# Altium footprint library hello.PcbLib: 6 footprints
Each footprint in its own frame and in the unit in brackets; x right, y up, seen from the top. Pads: shape width x height; smd on the part's side, far side on the other; paste and mask are expansions set on the pad; w line width, h text height; cw(c..) or ccw(c..) is an arc to the next point about the centre after c.
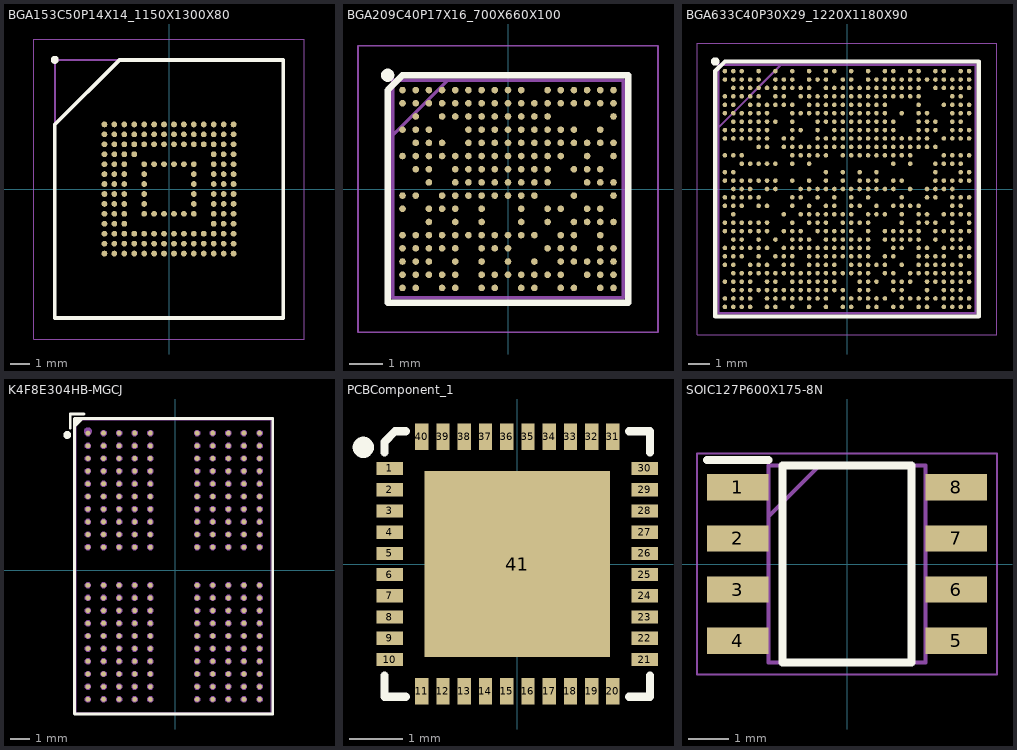
[diagram p0: the footprints below, top view; thin cyan lines are the x and y axes]

## BGA153C50P14X14_1150X1300X80 [mm]
pads (153):
  round 0.29 smd: A1(-3.25,3.25) A2(-2.75,3.25) A3(-2.25,3.25) A4(-1.75,3.25) A5(-1.25,3.25) A6(-0.75,3.25) A7(-0.25,3.25) A8(0.25,3.25) A9(0.75,3.25) A10(1.25,3.25) A11(1.75,3.25) A12(2.25,3.25) A13(2.75,3.25) A14(3.25,3.25) B1(-3.25,2.75) B2(-2.75,2.75) B3(-2.25,2.75) B4(-1.75,2.75) B5(-1.25,2.75) B6(-0.75,2.75) B7(-0.25,2.75) B8(0.25,2.75) B9(0.75,2.75) B10(1.25,2.75) B11(1.75,2.75) B12(2.25,2.75) B13(2.75,2.75) B14(3.25,2.75) C1(-3.25,2.25) C2(-2.75,2.25) C3(-2.25,2.25) C4(-1.75,2.25) C5(-1.25,2.25) C6(-0.75,2.25) C7(-0.25,2.25) C8(0.25,2.25) C9(0.75,2.25) C10(1.25,2.25) C11(1.75,2.25) C12(2.25,2.25) C13(2.75,2.25) C14(3.25,2.25) D1(-3.25,1.75) D2(-2.75,1.75) D3(-2.25,1.75) D4(-1.75,1.75) D12(2.25,1.75) D13(2.75,1.75) D14(3.25,1.75) E1(-3.25,1.25) E2(-2.75,1.25) E3(-2.25,1.25) E5(-1.25,1.25) E6(-0.75,1.25) E7(-0.25,1.25) E8(0.25,1.25) E9(0.75,1.25) E10(1.25,1.25) E12(2.25,1.25) E13(2.75,1.25) E14(3.25,1.25) F1(-3.25,0.75) F2(-2.75,0.75) F3(-2.25,0.75) F5(-1.25,0.75) F10(1.25,0.75) F12(2.25,0.75) F13(2.75,0.75) F14(3.25,0.75) G1(-3.25,0.25) G2(-2.75,0.25) G3(-2.25,0.25) G5(-1.25,0.25) G10(1.25,0.25) G12(2.25,0.25) G13(2.75,0.25) G14(3.25,0.25) H1(-3.25,-0.25) H2(-2.75,-0.25) H3(-2.25,-0.25) H5(-1.25,-0.25) H10(1.25,-0.25) H12(2.25,-0.25) H13(2.75,-0.25) H14(3.25,-0.25) J1(-3.25,-0.75) J2(-2.75,-0.75) J3(-2.25,-0.75) J5(-1.25,-0.75) J10(1.25,-0.75) J12(2.25,-0.75) J13(2.75,-0.75) J14(3.25,-0.75) K1(-3.25,-1.25) K2(-2.75,-1.25) K3(-2.25,-1.25) K5(-1.25,-1.25) K6(-0.75,-1.25) K7(-0.25,-1.25) K8(0.25,-1.25) K9(0.75,-1.25) K10(1.25,-1.25) K12(2.25,-1.25) K13(2.75,-1.25) K14(3.25,-1.25) L1(-3.25,-1.75) L2(-2.75,-1.75) L3(-2.25,-1.75) L12(2.25,-1.75) L13(2.75,-1.75) L14(3.25,-1.75) M1(-3.25,-2.25) M2(-2.75,-2.25) M3(-2.25,-2.25) M4(-1.75,-2.25) M5(-1.25,-2.25) M6(-0.75,-2.25) M7(-0.25,-2.25) M8(0.25,-2.25) M9(0.75,-2.25) M10(1.25,-2.25) M11(1.75,-2.25) M12(2.25,-2.25) M13(2.75,-2.25) M14(3.25,-2.25) N1(-3.25,-2.75) N2(-2.75,-2.75) N3(-2.25,-2.75) N4(-1.75,-2.75) N5(-1.25,-2.75) N6(-0.75,-2.75) N7(-0.25,-2.75) N8(0.25,-2.75) N9(0.75,-2.75) N10(1.25,-2.75) N11(1.75,-2.75) N12(2.25,-2.75) N13(2.75,-2.75) N14(3.25,-2.75) P1(-3.25,-3.25) P2(-2.75,-3.25) P3(-2.25,-3.25) P4(-1.75,-3.25) P5(-1.25,-3.25) P6(-0.75,-3.25) P7(-0.25,-3.25) P8(0.25,-3.25) P9(0.75,-3.25) P10(1.25,-3.25) P11(1.75,-3.25) P12(2.25,-3.25) P13(2.75,-3.25) P14(3.25,-3.25)
Top Overlay:
  circle w0.2: c-5.75,6.5 r0.1
  lines w0.2: -5.75,-6.5 -5.75,3.25 -2.5,6.5 5.75,6.5 5.75,-6.5 -5.75,-6.5
Mechanical 13:
  lines w0.1: -5.75,3.225 -2.475,6.5 ; -5.75,-6.5 -5.75,6.5 5.75,6.5 5.75,-6.5 -5.75,-6.5
Mechanical 15:
  lines w0.05: -6.8,-7.55 -6.8,7.55 6.8,7.55 6.8,-7.55 -6.8,-7.55
3D body "KLMAG1JETD-B041.stp": height 0.8, standoff 0, extent -5.75,-6.5 5.75,6.5

## BGA209C40P17X16_700X660X100 [mm]
pads (209):
  round 0.2 smd: A1(-3.2,3) A2(-2.8,3) A3(-2.4,3) A4(-2,3) A5(-1.6,3) A6(-1.2,3) A7(-0.8,3) A8(-0.4,3) A9(0,3) A10(0.4,3) A12(1.2,3) A13(1.6,3) A14(2,3) A15(2.4,3) A16(2.8,3) A17(3.2,3) B1(-3.2,2.6) B2(-2.8,2.6) B3(-2.4,2.6) B4(-2,2.6) B5(-1.6,2.6) B6(-1.2,2.6) B7(-0.8,2.6) B8(-0.4,2.6) B9(0,2.6) B10(0.4,2.6) B11(0.8,2.6) B12(1.2,2.6) B13(1.6,2.6) B14(2,2.6) B15(2.4,2.6) B16(2.8,2.6) B17(3.2,2.6) C2(-2.8,2.2) C4(-2,2.2) C5(-1.6,2.2) C6(-1.2,2.2) C7(-0.8,2.2) C8(-0.4,2.2) C9(0,2.2) C10(0.4,2.2) C11(0.8,2.2) C12(1.2,2.2) C17(3.2,2.2) D1(-3.2,1.8) D2(-2.8,1.8) D3(-2.4,1.8) D6(-1.2,1.8) D7(-0.8,1.8) D8(-0.4,1.8) D9(0,1.8) D10(0.4,1.8) D11(0.8,1.8) D12(1.2,1.8) D13(1.6,1.8) D14(2,1.8) D16(2.8,1.8) E2(-2.8,1.4) E3(-2.4,1.4) E4(-2,1.4) E6(-1.2,1.4) E7(-0.8,1.4) E8(-0.4,1.4) E9(0,1.4) E10(0.4,1.4) E11(0.8,1.4) E12(1.2,1.4) E13(1.6,1.4) E14(2,1.4) E15(2.4,1.4) E16(2.8,1.4) E17(3.2,1.4) F1(-3.2,1) F2(-2.8,1) F3(-2.4,1) F4(-2,1) F5(-1.6,1) F6(-1.2,1) F7(-0.8,1) F8(-0.4,1) F9(0,1) F10(0.4,1) F11(0.8,1) F12(1.2,1) F13(1.6,1) F15(2.4,1) F17(3.2,1) G2(-2.8,0.6) G3(-2.4,0.6) G5(-1.6,0.6) G6(-1.2,0.6) G7(-0.8,0.6) G8(-0.4,0.6) G9(0,0.6) G10(0.4,0.6) G11(0.8,0.6) G12(1.2,0.6) G14(2,0.6) G15(2.4,0.6) G16(2.8,0.6) H3(-2.4,0.2) H5(-1.6,0.2) H6(-1.2,0.2) H7(-0.8,0.2) H8(-0.4,0.2) H9(0,0.2) H10(0.4,0.2) H11(0.8,0.2) H12(1.2,0.2) H15(2.4,0.2) H16(2.8,0.2) H17(3.2,0.2) J1(-3.2,-0.2) J2(-2.8,-0.2) J4(-2,-0.2) J5(-1.6,-0.2) J6(-1.2,-0.2) J7(-0.8,-0.2) J8(-0.4,-0.2) J9(0,-0.2) J10(0.4,-0.2) J11(0.8,-0.2) J14(2,-0.2) J17(3.2,-0.2) K1(-3.2,-0.6) K3(-2.4,-0.6) K4(-2,-0.6) K5(-1.6,-0.6) K7(-0.8,-0.6) K10(0.4,-0.6) K12(1.2,-0.6) K13(1.6,-0.6) K15(2.4,-0.6) K16(2.8,-0.6) L3(-2.4,-1) L5(-1.6,-1) L7(-0.8,-1) L10(0.4,-1) L12(1.2,-1) L14(2,-1) L15(2.4,-1) L16(2.8,-1) L17(3.2,-1) M1(-3.2,-1.4) M2(-2.8,-1.4) M3(-2.4,-1.4) M4(-2,-1.4) M5(-1.6,-1.4) M6(-1.2,-1.4) M7(-0.8,-1.4) M8(-0.4,-1.4) M9(0,-1.4) M10(0.4,-1.4) M11(0.8,-1.4) M13(1.6,-1.4) M14(2,-1.4) M16(2.8,-1.4) N1(-3.2,-1.8) N2(-2.8,-1.8) N3(-2.4,-1.8) N4(-2,-1.8) N5(-1.6,-1.8) N7(-0.8,-1.8) N8(-0.4,-1.8) N9(0,-1.8) N12(1.2,-1.8) N13(1.6,-1.8) N14(2,-1.8) N16(2.8,-1.8) N17(3.2,-1.8) P1(-3.2,-2.2) P2(-2.8,-2.2) P3(-2.4,-2.2) P5(-1.6,-2.2) P7(-0.8,-2.2) P9(0,-2.2) P11(0.8,-2.2) P13(1.6,-2.2) P14(2,-2.2) P15(2.4,-2.2) P16(2.8,-2.2) P17(3.2,-2.2) R1(-3.2,-2.6) R2(-2.8,-2.6) R3(-2.4,-2.6) R4(-2,-2.6) R5(-1.6,-2.6) R7(-0.8,-2.6) R8(-0.4,-2.6) R9(0,-2.6) R10(0.4,-2.6) R11(0.8,-2.6) R12(1.2,-2.6) R13(1.6,-2.6) R15(2.4,-2.6) R16(2.8,-2.6) R17(3.2,-2.6) T1(-3.2,-3) T2(-2.8,-3) T4(-2,-3) T5(-1.6,-3) T7(-0.8,-3) T8(-0.4,-3) T10(0.4,-3) T11(0.8,-3) T13(1.6,-3) T14(2,-3) T16(2.8,-3) T17(3.2,-3)
Top Overlay:
  circle w0.2: c-3.65,3.45 r0.1
  lines w0.2: -3.65,-3.45 -3.65,3 -3.2,3.45 3.65,3.45 3.65,-3.45 -3.65,-3.45
Mechanical 13:
  lines w0.1: -3.5,1.625 -1.825,3.3 ; -3.5,-3.3 -3.5,3.3 3.5,3.3 3.5,-3.3 -3.5,-3.3
Mechanical 15:
  lines w0.05: -4.55,-4.35 -4.55,4.35 4.55,4.35 4.55,-4.35 -4.55,-4.35
3D body "MT6357ARV_A.stp": height 1, standoff 0, extent -3.5,-3.3 3.5,3.3

## BGA633C40P30X29_1220X1180X90 [mm]
pads (633):
  round 0.216 smd: A1(-5.8,5.6) A2(-5.4,5.6) A3(-5,5.6) A5(-4.2,5.6) A7(-3.4,5.6) A9(-2.6,5.6) A11(-1.8,5.6) A13(-1,5.6) A14(-0.6,5.6) A16(0.2,5.6) A18(1,5.6) A20(1.8,5.6) A21(2.2,5.6) A23(3,5.6) A24(3.4,5.6) A26(4.2,5.6) A27(4.6,5.6) A29(5.4,5.6) A30(5.8,5.6) AA2(-5.4,-2.4) AA3(-5,-2.4) AA5(-4.2,-2.4) AA7(-3.4,-2.4) AA9(-2.6,-2.4) AA10(-2.2,-2.4) AA11(-1.8,-2.4) AA13(-1,-2.4) AA14(-0.6,-2.4) AA15(-0.2,-2.4) AA16(0.2,-2.4) AA17(0.6,-2.4) AA18(1,-2.4) AA20(1.8,-2.4) AA21(2.2,-2.4) AA22(2.6,-2.4) AA23(3,-2.4) AA24(3.4,-2.4) AA26(4.2,-2.4) AA28(5,-2.4) AA29(5.4,-2.4) AB1(-5.8,-2.8) AB2(-5.4,-2.8) AB3(-5,-2.8) AB4(-4.6,-2.8) AB5(-4.2,-2.8) AB6(-3.8,-2.8) AB8(-3,-2.8) AB9(-2.6,-2.8) AB10(-2.2,-2.8) AB11(-1.8,-2.8) AB12(-1.4,-2.8) AB13(-1,-2.8) AB14(-0.6,-2.8) AB15(-0.2,-2.8) AB16(0.2,-2.8) AB17(0.6,-2.8) AB18(1,-2.8) AB21(2.2,-2.8) AB22(2.6,-2.8) AB24(3.4,-2.8) AB25(3.8,-2.8) AB27(4.6,-2.8) AB28(5,-2.8) AB29(5.4,-2.8) AB30(5.8,-2.8) AC1(-5.8,-3.2) AC2(-5.4,-3.2) AC3(-5,-3.2) AC5(-4.2,-3.2) AC7(-3.4,-3.2) AC8(-3,-3.2) AC9(-2.6,-3.2) AC11(-1.8,-3.2) AC12(-1.4,-3.2) AC13(-1,-3.2) AC14(-0.6,-3.2) AC15(-0.2,-3.2) AC16(0.2,-3.2) AC17(0.6,-3.2) AC18(1,-3.2) AC20(1.8,-3.2) AC21(2.2,-3.2) AC24(3.4,-3.2) AC25(3.8,-3.2) AC26(4.2,-3.2) AC27(4.6,-3.2) AC29(5.4,-3.2) AC30(5.8,-3.2) AD1(-5.8,-3.6) AD2(-5.4,-3.6) AD4(-4.6,-3.6) AD5(-4.2,-3.6) AD6(-3.8,-3.6) AD8(-3,-3.6) AD9(-2.6,-3.6) AD11(-1.8,-3.6) AD12(-1.4,-3.6) AD13(-1,-3.6) AD14(-0.6,-3.6) AD16(0.2,-3.6) AD17(0.6,-3.6) AD18(1,-3.6) AD19(1.4,-3.6) AD20(1.8,-3.6) AD22(2.6,-3.6) AD24(3.4,-3.6) AD25(3.8,-3.6) AD26(4.2,-3.6) AD27(4.6,-3.6) AD28(5,-3.6) AD29(5.4,-3.6) AE2(-5.4,-4) AE3(-5,-4) AE4(-4.6,-4) AE5(-4.2,-4) AE6(-3.8,-4) AE7(-3.4,-4) AE8(-3,-4) AE9(-2.6,-4) AE10(-2.2,-4) AE11(-1.8,-4) AE12(-1.4,-4) AE13(-1,-4) AE14(-0.6,-4) AE15(-0.2,-4) AE16(0.2,-4) AE17(0.6,-4) AE18(1,-4) AE20(1.8,-4) AE21(2.2,-4) AE23(3,-4) AE24(3.4,-4) AE25(3.8,-4) AE26(4.2,-4) AE27(4.6,-4) AE28(5,-4) AE29(5.4,-4) AE30(5.8,-4) AF1(-5.8,-4.4) AF2(-5.4,-4.4) AF3(-5,-4.4) AF4(-4.6,-4.4) AF6(-3.8,-4.4) AF7(-3.4,-4.4) AF9(-2.6,-4.4) AF10(-2.2,-4.4) AF11(-1.8,-4.4) AF12(-1.4,-4.4) AF13(-1,-4.4) AF14(-0.6,-4.4) AF17(0.6,-4.4) AF18(1,-4.4) AF19(1.4,-4.4) AF21(2.2,-4.4) AF22(2.6,-4.4) AF23(3,-4.4) AF25(3.8,-4.4) AF26(4.2,-4.4) AF27(4.6,-4.4) AF28(5,-4.4) AF29(5.4,-4.4) AF30(5.8,-4.4) AG2(-5.4,-4.8) AG3(-5,-4.8) AG4(-4.6,-4.8) AG5(-4.2,-4.8) AG6(-3.8,-4.8) AG7(-3.4,-4.8) AG8(-3,-4.8) AG9(-2.6,-4.8) AG10(-2.2,-4.8) AG11(-1.8,-4.8) AG12(-1.4,-4.8) AG13(-1,-4.8) AG14(-0.6,-4.8) AG15(-0.2,-4.8) AG17(0.6,-4.8) AG18(1,-4.8) AG21(2.2,-4.8) AG22(2.6,-4.8) AG25(3.8,-4.8) AG27(4.6,-4.8) AG28(5,-4.8) AG29(5.4,-4.8) AH1(-5.8,-5.2) AH2(-5.4,-5.2) AH3(-5,-5.2) AH4(-4.6,-5.2) AH6(-3.8,-5.2) AH7(-3.4,-5.2) AH8(-3,-5.2) AH9(-2.6,-5.2) AH10(-2.2,-5.2) AH11(-1.8,-5.2) AH12(-1.4,-5.2) AH13(-1,-5.2) AH15(-0.2,-5.2) AH16(0.2,-5.2) AH17(0.6,-5.2) AH18(1,-5.2) AH19(1.4,-5.2) AH20(1.8,-5.2) AH22(2.6,-5.2) AH23(3,-5.2) AH24(3.4,-5.2) AH25(3.8,-5.2) AH26(4.2,-5.2) AH27(4.6,-5.2) AH28(5,-5.2) AH29(5.4,-5.2) AH30(5.8,-5.2) AJ1(-5.8,-5.6) AJ2(-5.4,-5.6) AJ3(-5,-5.6) AJ4(-4.6,-5.6) AJ6(-3.8,-5.6) AJ7(-3.4,-5.6) AJ9(-2.6,-5.6) AJ11(-1.8,-5.6) AJ13(-1,-5.6) AJ15(-0.2,-5.6) AJ16(0.2,-5.6) AJ18(1,-5.6) AJ19(1.4,-5.6) AJ21(2.2,-5.6) AJ22(2.6,-5.6) AJ24(3.4,-5.6) AJ25(3.8,-5.6) AJ27(4.6,-5.6) AJ28(5,-5.6) AJ29(5.4,-5.6) AJ30(5.8,-5.6) B1(-5.8,5.2) B2(-5.4,5.2) B3(-5,5.2) B4(-4.6,5.2) B5(-4.2,5.2) B7(-3.4,5.2) B8(-3,5.2) B9(-2.6,5.2) B11(-1.8,5.2) B12(-1.4,5.2) B13(-1,5.2) B15(-0.2,5.2) B16(0.2,5.2) B18(1,5.2) B19(1.4,5.2) B20(1.8,5.2) B21(2.2,5.2) B22(2.6,5.2) B23(3,5.2) B24(3.4,5.2) B25(3.8,5.2) B26(4.2,5.2) B27(4.6,5.2) B28(5,5.2) B29(5.4,5.2) B30(5.8,5.2) C2(-5.4,4.8) C3(-5,4.8) C4(-4.6,4.8) C5(-4.2,4.8) C6(-3.8,4.8) C7(-3.4,4.8) C8(-3,4.8) C9(-2.6,4.8) C10(-2.2,4.8) C11(-1.8,4.8) C13(-1,4.8) C14(-0.6,4.8) C15(-0.2,4.8) C16(0.2,4.8) C17(0.6,4.8) C18(1,4.8) C19(1.4,4.8) C20(1.8,4.8) C21(2.2,4.8) C22(2.6,4.8) C23(3,4.8) C24(3.4,4.8) C26(4.2,4.8) C27(4.6,4.8) C28(5,4.8) C29(5.4,4.8) C30(5.8,4.8) D1(-5.8,4.4) D2(-5.4,4.4) D3(-5,4.4) D4(-4.6,4.4) D5(-4.2,4.4) D7(-3.4,4.4) D8(-3,4.4) D10(-2.2,4.4) D11(-1.8,4.4) D12(-1.4,4.4) D13(-1,4.4) D14(-0.6,4.4) D15(-0.2,4.4) D16(0.2,4.4) D17(0.6,4.4) D18(1,4.4) D19(1.4,4.4) D20(1.8,4.4) D21(2.2,4.4) D22(2.6,4.4) D23(3,4.4) D24(3.4,4.4) D28(5,4.4) D29(5.4,4.4) E1(-5.8,4) E2(-5.4,4) E4(-4.6,4) E5(-4.2,4) E6(-3.8,4) E7(-3.4,4) E8(-3,4) E9(-2.6,4) E11(-1.8,4) E12(-1.4,4) E13(-1,4) E14(-0.6,4) E15(-0.2,4) E16(0.2,4) E17(0.6,4) E18(1,4) E19(1.4,4) E20(1.8,4) E24(3.4,4) E27(4.6,4) E28(5,4) E29(5.4,4) E30(5.8,4) F1(-5.8,3.6) F2(-5.4,3.6) F3(-5,3.6) F4(-4.6,3.6) F5(-4.2,3.6) F6(-3.8,3.6) F9(-2.6,3.6) F10(-2.2,3.6) F11(-1.8,3.6) F12(-1.4,3.6) F13(-1,3.6) F14(-0.6,3.6) F15(-0.2,3.6) F16(0.2,3.6) F17(0.6,3.6) F18(1,3.6) F19(1.4,3.6) F20(1.8,3.6) F22(2.6,3.6) F24(3.4,3.6) F25(3.8,3.6) F28(5,3.6) F29(5.4,3.6) F30(5.8,3.6) G2(-5.4,3.2) G3(-5,3.2) G4(-4.6,3.2) G5(-4.2,3.2) G6(-3.8,3.2) G7(-3.4,3.2) G9(-2.6,3.2) G12(-1.4,3.2) G13(-1,3.2) G14(-0.6,3.2) G15(-0.2,3.2) G16(0.2,3.2) G17(0.6,3.2) G18(1,3.2) G19(1.4,3.2) G20(1.8,3.2) G21(2.2,3.2) G24(3.4,3.2) G25(3.8,3.2) G26(4.2,3.2) G28(5,3.2) G29(5.4,3.2) H1(-5.8,2.8) H2(-5.4,2.8) H3(-5,2.8) H4(-4.6,2.8) H5(-4.2,2.8) H6(-3.8,2.8) H9(-2.6,2.8) H10(-2.2,2.8) H12(-1.4,2.8) H14(-0.6,2.8) H15(-0.2,2.8) H16(0.2,2.8) H17(0.6,2.8) H18(1,2.8) H19(1.4,2.8) H20(1.8,2.8) H21(2.2,2.8) H24(3.4,2.8) H25(3.8,2.8) H26(4.2,2.8) H28(5,2.8) H29(5.4,2.8) H30(5.8,2.8) J1(-5.8,2.4) J2(-5.4,2.4) J3(-5,2.4) J4(-4.6,2.4) J5(-4.2,2.4) J6(-3.8,2.4) J8(-3,2.4) J9(-2.6,2.4) J12(-1.4,2.4) J13(-1,2.4) J14(-0.6,2.4) J15(-0.2,2.4) J16(0.2,2.4) J17(0.6,2.4) J18(1,2.4) J19(1.4,2.4) J20(1.8,2.4) J21(2.2,2.4) J22(2.6,2.4) J23(3,2.4) J24(3.4,2.4) J25(3.8,2.4) J27(4.6,2.4) J28(5,2.4) J29(5.4,2.4) J30(5.8,2.4) K5(-4.2,2) K6(-3.8,2) K8(-3,2) K9(-2.6,2) K10(-2.2,2) K11(-1.8,2) K12(-1.4,2) K13(-1,2) K14(-0.6,2) K15(-0.2,2) K16(0.2,2) K17(0.6,2) K18(1,2) K19(1.4,2) K20(1.8,2) K21(2.2,2) K22(2.6,2) K23(3,2) K24(3.4,2) K25(3.8,2) K26(4.2,2) L1(-5.8,1.6) L2(-5.4,1.6) L3(-5,1.6) L9(-2.6,1.6) L10(-2.2,1.6) L11(-1.8,1.6) L12(-1.4,1.6) L13(-1,1.6) L15(-0.2,1.6) L16(0.2,1.6) L17(0.6,1.6) L18(1,1.6) L19(1.4,1.6) L20(1.8,1.6) L21(2.2,1.6) L22(2.6,1.6) L23(3,1.6) L27(4.6,1.6) L28(5,1.6) L29(5.4,1.6) L30(5.8,1.6) M3(-5,1.2) M4(-4.6,1.2) M5(-4.2,1.2) M6(-3.8,1.2) M7(-3.4,1.2) M9(-2.6,1.2) M11(-1.8,1.2) M21(2.2,1.2) M23(3,1.2) M26(4.2,1.2) M27(4.6,1.2) M28(5,1.2) M29(5.4,1.2) N1(-5.8,0.8) N2(-5.4,0.8) N13(-1,0.8) N15(-0.2,0.8) N17(0.6,0.8) N19(1.4,0.8) N26(4.2,0.8) N29(5.4,0.8) N30(5.8,0.8) P1(-5.8,0.4) P2(-5.4,0.4) P3(-5,0.4) P4(-4.6,0.4) P5(-4.2,0.4) P6(-3.8,0.4) P7(-3.4,0.4) P9(-2.6,0.4) P11(-1.8,0.4) P13(-1,0.4) P15(-0.2,0.4) P17(0.6,0.4) P18(1,0.4) P19(1.4,0.4) P21(2.2,0.4) P22(2.6,0.4) P26(4.2,0.4) P27(4.6,0.4) P28(5,0.4) P29(5.4,0.4) P30(5.8,0.4) R2(-5.4,0) R3(-5,0) R4(-4.6,0) R6(-3.8,0) R7(-3.4,0) R10(-2.2,0) R11(-1.8,0) R12(-1.4,0) R13(-1,0) R14(-0.6,0) R15(-0.2,0) R16(0.2,0) R17(0.6,0) R18(1,0) R19(1.4,0) R20(1.8,0) R21(2.2,0) R23(3,0) R25(3.8,0) R26(4.2,0) R27(4.6,0) R28(5,0) T1(-5.8,-0.4) T2(-5.4,-0.4) T3(-5,-0.4) T4(-4.6,-0.4) T5(-4.2,-0.4) T9(-2.6,-0.4) T10(-2.2,-0.4) T12(-1.4,-0.4) T14(-0.6,-0.4) T16(0.2,-0.4) T18(1,-0.4) T22(2.6,-0.4) T25(3.8,-0.4) T26(4.2,-0.4) T28(5,-0.4) T29(5.4,-0.4) T30(5.8,-0.4) U1(-5.8,-0.8) U2(-5.4,-0.8) U3(-5,-0.8) U5(-4.2,-0.8) U6(-3.8,-0.8) U9(-2.6,-0.8) U11(-1.8,-0.8) U13(-1,-0.8) U14(-0.6,-0.8) U16(0.2,-0.8) U17(0.6,-0.8) U19(1.4,-0.8) U21(2.2,-0.8) U22(2.6,-0.8) U23(3,-0.8) U24(3.4,-0.8) U28(5,-0.8) U29(5.4,-0.8) V2(-5.4,-1.2) V8(-3,-1.2) V10(-2.2,-1.2) V11(-1.8,-1.2) V12(-1.4,-1.2) V13(-1,-1.2) V14(-0.6,-1.2) V15(-0.2,-1.2) V16(0.2,-1.2) V18(1,-1.2) V19(1.4,-1.2) V20(1.8,-1.2) V22(2.6,-1.2) V24(3.4,-1.2) V25(3.8,-1.2) V27(4.6,-1.2) V28(5,-1.2) V29(5.4,-1.2) V30(5.8,-1.2) W1(-5.8,-1.6) W2(-5.4,-1.6) W3(-5,-1.6) W4(-4.6,-1.6) W5(-4.2,-1.6) W6(-3.8,-1.6) W9(-2.6,-1.6) W11(-1.8,-1.6) W12(-1.4,-1.6) W13(-1,-1.6) W15(-0.2,-1.6) W16(0.2,-1.6) W17(0.6,-1.6) W18(1,-1.6) W22(2.6,-1.6) W24(3.4,-1.6) W25(3.8,-1.6) W26(4.2,-1.6) W28(5,-1.6) W30(5.8,-1.6) Y1(-5.8,-2) Y2(-5.4,-2) Y3(-5,-2) Y4(-4.6,-2) Y5(-4.2,-2) Y6(-3.8,-2) Y8(-3,-2) Y9(-2.6,-2) Y10(-2.2,-2) Y12(-1.4,-2) Y13(-1,-2) Y14(-0.6,-2) Y15(-0.2,-2) Y16(0.2,-2) Y18(1,-2) Y20(1.8,-2) Y21(2.2,-2) Y22(2.6,-2) Y23(3,-2) Y24(3.4,-2) Y26(4.2,-2) Y27(4.6,-2) Y28(5,-2) Y29(5.4,-2) Y30(5.8,-2)
Top Overlay:
  circle w0.2: c-6.258,6.058 r0.1
  lines w0.2: -6.258,-6.058 6.258,-6.058 6.258,6.058 -5.8,6.058 -6.258,5.6 -6.258,-6.058
Mechanical 13:
  lines w0.1: -6.1,2.938 -3.138,5.9 ; -6.1,-5.9 6.1,-5.9 6.1,5.9 -6.1,5.9 -6.1,-5.9
Mechanical 15:
  lines w0.05: -7.125,-6.925 7.125,-6.925 7.125,6.925 -7.125,6.925 -7.125,-6.925
3D body "MT8365V_BZB.stp": height 0.9, standoff 0, extent -6.1,-5.9 6.1,5.9

## K4F8E304HB-MGCJ [mil]
pads (200):
  round 9.76 smd paste-3937 mask+2: A1(-175.99,277.09) A2(-144.49,277.09) A3(-113,277.09) A4(-81.5,277.09) A5(-50,277.09) A8(44.48,277.09) A9(75.98,277.09) A10(107.48,277.09) A11(138.97,277.09) A12(170.47,277.09) AA1(-175.99,-234.72) AA2(-144.49,-234.72) AA3(-113,-234.72) AA4(-81.5,-234.72) AA5(-50,-234.72) AA8(44.48,-234.72) AA9(75.98,-234.72) AA10(107.48,-234.72) AA11(138.97,-234.72) AA12(170.47,-234.72) AB1(-175.99,-260.31) AB2(-144.49,-260.31) AB3(-113,-260.31) AB4(-81.5,-260.31) AB5(-50,-260.31) AB8(44.48,-260.31) AB9(75.98,-260.31) AB10(107.48,-260.31) AB11(138.97,-260.31) AB12(170.47,-260.31) B1(-175.99,251.5) B2(-144.49,251.5) B3(-113,251.5) B4(-81.5,251.5) B5(-50,251.5) B8(44.48,251.5) B9(75.98,251.5) B10(107.48,251.5) B11(138.97,251.5) B12(170.47,251.5) C1(-175.99,225.91) C2(-144.49,225.91) C3(-113,225.91) C4(-81.5,225.91) C5(-50,225.91) C8(44.48,225.91) C9(75.98,225.91) C10(107.48,225.91) C11(138.97,225.91) C12(170.47,225.91) D1(-175.99,200.32) D2(-144.49,200.32) D3(-113,200.32) D4(-81.5,200.32) D5(-50,200.32) D8(44.48,200.32) D9(75.98,200.32) D10(107.48,200.32) D11(138.97,200.32) D12(170.47,200.32) E1(-175.99,174.73) E2(-144.49,174.73) E3(-113,174.73) E4(-81.5,174.73) E5(-50,174.73) E8(44.48,174.73) E9(75.98,174.73) E10(107.48,174.73) E11(138.97,174.73) E12(170.47,174.73) F1(-175.99,149.14) F2(-144.49,149.14) F3(-113,149.14) F4(-81.5,149.14) F5(-50,149.14) F8(44.48,149.14) F9(75.98,149.14) F10(107.48,149.14) F11(138.97,149.14) F12(170.47,149.14) G1(-175.99,123.55) G2(-144.49,123.55) G3(-113,123.55) G4(-81.5,123.55) G5(-50,123.55) G8(44.48,123.55) G9(75.98,123.55) G10(107.48,123.55) G11(138.97,123.55) G12(170.47,123.55) H1(-175.99,97.96) H2(-144.49,97.96) H3(-113,97.96) H4(-81.5,97.96) H5(-50,97.96) H8(44.48,97.96) H9(75.98,97.96) H10(107.48,97.96) H11(138.97,97.96) H12(170.47,97.96) J1(-175.99,72.37) J2(-144.49,72.37) J3(-113,72.37) J4(-81.5,72.37) J5(-50,72.37) J8(44.48,72.37) J9(75.98,72.37) J10(107.48,72.37) J11(138.97,72.37) J12(170.47,72.37) K1(-175.99,46.78) K2(-144.49,46.78) K3(-113,46.78) K4(-81.5,46.78) K5(-50,46.78) K8(44.48,46.78) K9(75.98,46.78) K10(107.48,46.78) K11(138.97,46.78) K12(170.47,46.78) N1(-175.99,-30) N2(-144.49,-30) N3(-113,-30) N4(-81.5,-30) N5(-50,-30) N8(44.48,-30) N9(75.98,-30) N10(107.48,-30) N11(138.97,-30) N12(170.47,-30) P1(-175.99,-55.59) P2(-144.49,-55.59) P3(-113,-55.59) P4(-81.5,-55.59) P5(-50,-55.59) P8(44.48,-55.59) P9(75.98,-55.59) P10(107.48,-55.59) P11(138.97,-55.59) P12(170.47,-55.59) R1(-175.99,-81.18) R2(-144.49,-81.18) R3(-113,-81.18) R4(-81.5,-81.18) R5(-50,-81.18) R8(44.48,-81.18) R9(75.98,-81.18) R10(107.48,-81.18) R11(138.97,-81.18) R12(170.47,-81.18) T1(-175.99,-106.77) T2(-144.49,-106.77) T3(-113,-106.77) T4(-81.5,-106.77) T5(-50,-106.77) T8(44.48,-106.77) T9(75.98,-106.77) T10(107.48,-106.77) T11(138.97,-106.77) T12(170.47,-106.77) U1(-175.99,-132.36) U2(-144.49,-132.36) U3(-113,-132.36) U4(-81.5,-132.36) U5(-50,-132.36) U8(44.48,-132.36) U9(75.98,-132.36) U10(107.48,-132.36) U11(138.97,-132.36) U12(170.47,-132.36) V1(-175.99,-157.95) V2(-144.49,-157.95) V3(-113,-157.95) V4(-81.5,-157.95) V5(-50,-157.95) V8(44.48,-157.95) V9(75.98,-157.95) V10(107.48,-157.95) V11(138.97,-157.95) V12(170.47,-157.95) W1(-175.99,-183.54) W2(-144.49,-183.54) W3(-113,-183.54) W4(-81.5,-183.54) W5(-50,-183.54) W8(44.48,-183.54) W9(75.98,-183.54) W10(107.48,-183.54) W11(138.97,-183.54) W12(170.47,-183.54) Y1(-175.99,-209.13) Y2(-144.49,-209.13) Y3(-113,-209.13) Y4(-81.5,-209.13) Y5(-50,-209.13) Y8(44.48,-209.13) Y9(75.98,-209.13) Y10(107.48,-209.13) Y11(138.97,-209.13) Y12(170.47,-209.13)
Top Overlay:
  circle w7.87: c-217.76,273.39 r3.94
  region: -202.61,306.67 -183.71,306.67 -202.61,287.77
  lines w6: -211.61,287.77 -211.61,315.67 -183.71,315.67 ; -202.61,-289.88 -202.61,306.67 197.09,306.67 197.09,-289.88 -202.61,-289.88
Top Paste:
  drawing of 200 lines, arcs and shapes, not listed
Mechanical 6:
  circle w7.87: c-175.99,281.03 r3.94
  region: -202.61,306.67 -183.71,306.67 -202.61,287.77
Mechanical 15:
  drawing of 205 lines, arcs and shapes, not listed

## PCBComponent_1 [mm]
pads (41):
  rect 0.5x0.25 smd paste+0 mask+0.051: 1(-2.4,1.8) 2(-2.4,1.4) 3(-2.4,1) 4(-2.4,0.6) 5(-2.4,0.2) 6(-2.4,-0.2) 7(-2.4,-0.6) 8(-2.4,-1) 9(-2.4,-1.4) 10(-2.4,-1.8) 21(2.4,-1.8) 22(2.4,-1.4) 23(2.4,-1) 24(2.4,-0.6) 25(2.4,-0.2) 26(2.4,0.2) 27(2.4,0.6) 28(2.4,1) 29(2.4,1.4) 30(2.4,1.8)
  rect 0.25x0.5 smd paste+0 mask+0.051: 11(-1.8,-2.4) 12(-1.4,-2.4) 13(-1,-2.4) 14(-0.6,-2.4) 15(-0.2,-2.4) 16(0.2,-2.4) 17(0.6,-2.4) 18(1,-2.4) 19(1.4,-2.4) 20(1.8,-2.4) 31(1.8,2.4) 32(1.4,2.4) 33(1,2.4) 34(0.6,2.4) 35(0.2,2.4) 36(-0.2,2.4) 37(-0.6,2.4) 38(-1,2.4) 39(-1.4,2.4) 40(-1.8,2.4)
  rect 3.5x3.5 smd paste+0 mask+0.051: 41(0,0)
Top Overlay:
  lines w0.152: -2.5,-2.1 -2.5,-2.5 -2.1,-2.5 ; -2.5,2.1 -2.5,2.3 -2.3,2.5 -2.1,2.5 ; 2.1,-2.5 2.5,-2.5 2.5,-2.1 ; 2.1,2.5 2.5,2.5 2.5,2.1
  lines w0.2: -2.8,2.196 cw(c-2.9,2.198) -2.8,2.2
Mechanical 15:
  lines w0.003: 0.206,0.127 0.206,0.127

## SOIC127P600X175-8N [mm]
pads (8):
  rect 1.525x0.65 smd: 1(-2.712,1.905) 2(-2.712,0.635) 3(-2.712,-0.635) 4(-2.712,-1.905) 5(2.712,-1.905) 6(2.712,-0.635) 7(2.712,0.635) 8(2.712,1.905)
Top Overlay:
  lines w0.2: -3.475,2.58 -1.95,2.58 ; -1.6,-2.45 1.6,-2.45 1.6,2.45 -1.6,2.45 -1.6,-2.45
Mechanical 13:
  lines w0.1: -1.95,1.18 -0.68,2.45 ; -1.95,-2.45 1.95,-2.45 1.95,2.45 -1.95,2.45 -1.95,-2.45
Mechanical 15:
  lines w0.05: -3.725,-2.75 3.725,-2.75 3.725,2.75 -3.725,2.75 -3.725,-2.75
3D body "NE555DR.stp": height 1.75, standoff 0, extent -3,-2.45 3,2.45